# Altium schematic symbol library Lattice.SchLib: 1 symbol
Pins are listed as number, name and electrical type; pins without a type are passive.

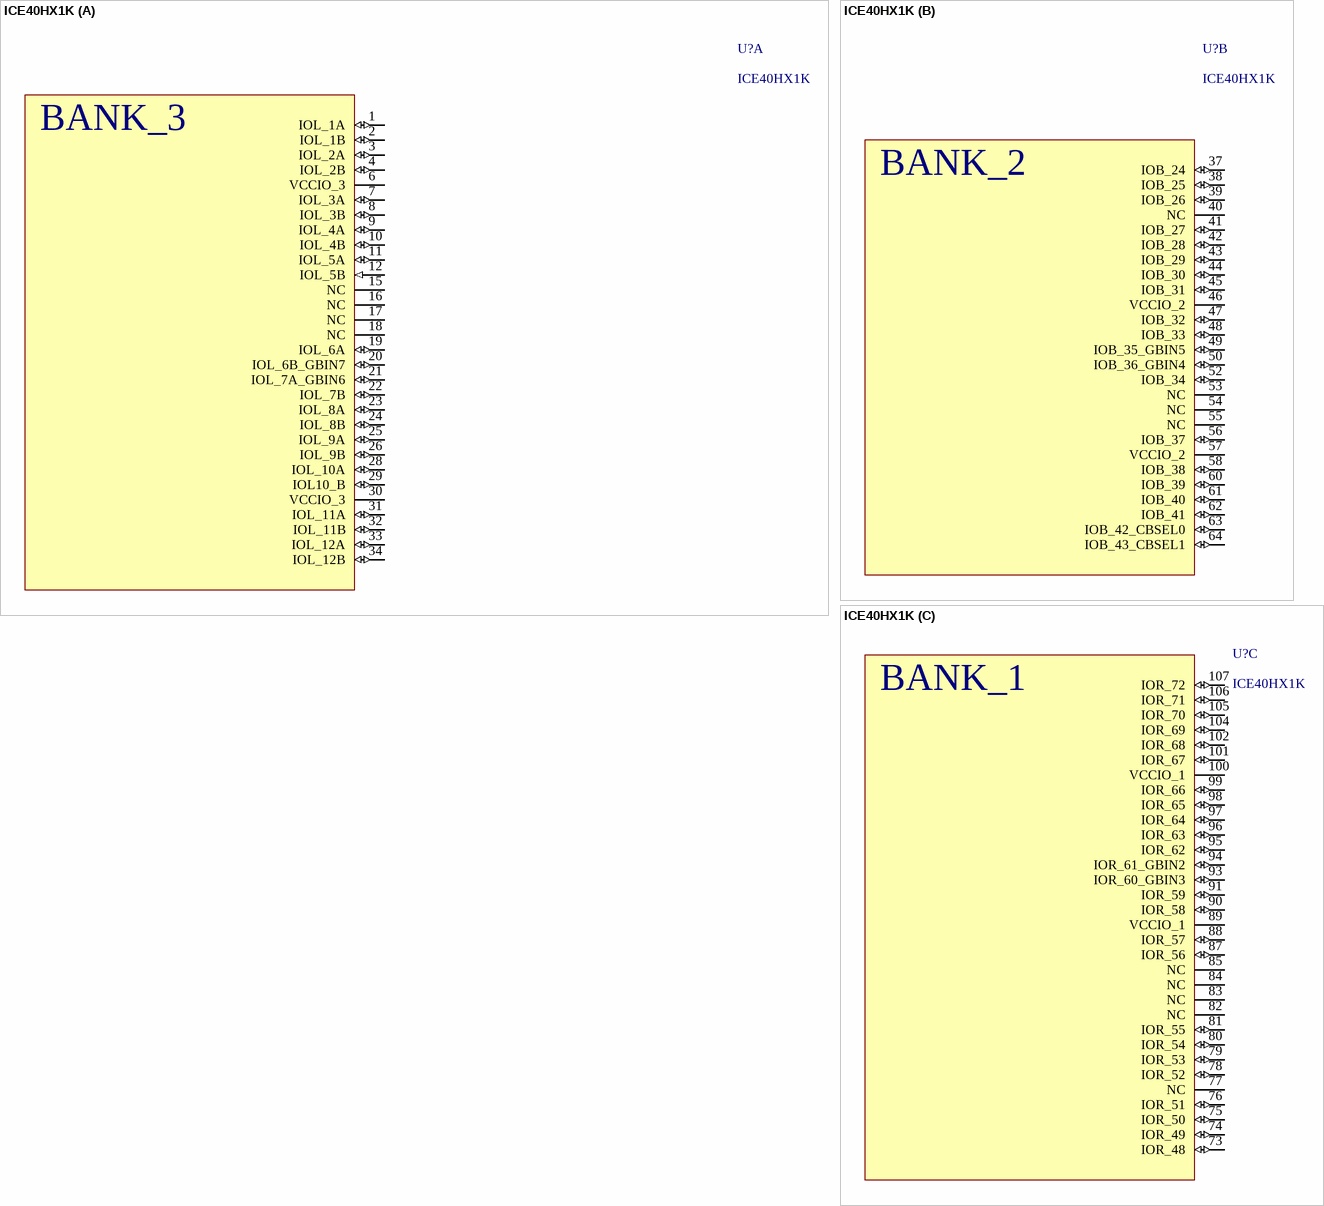
[diagram p0: symbol ICE40HX1K]

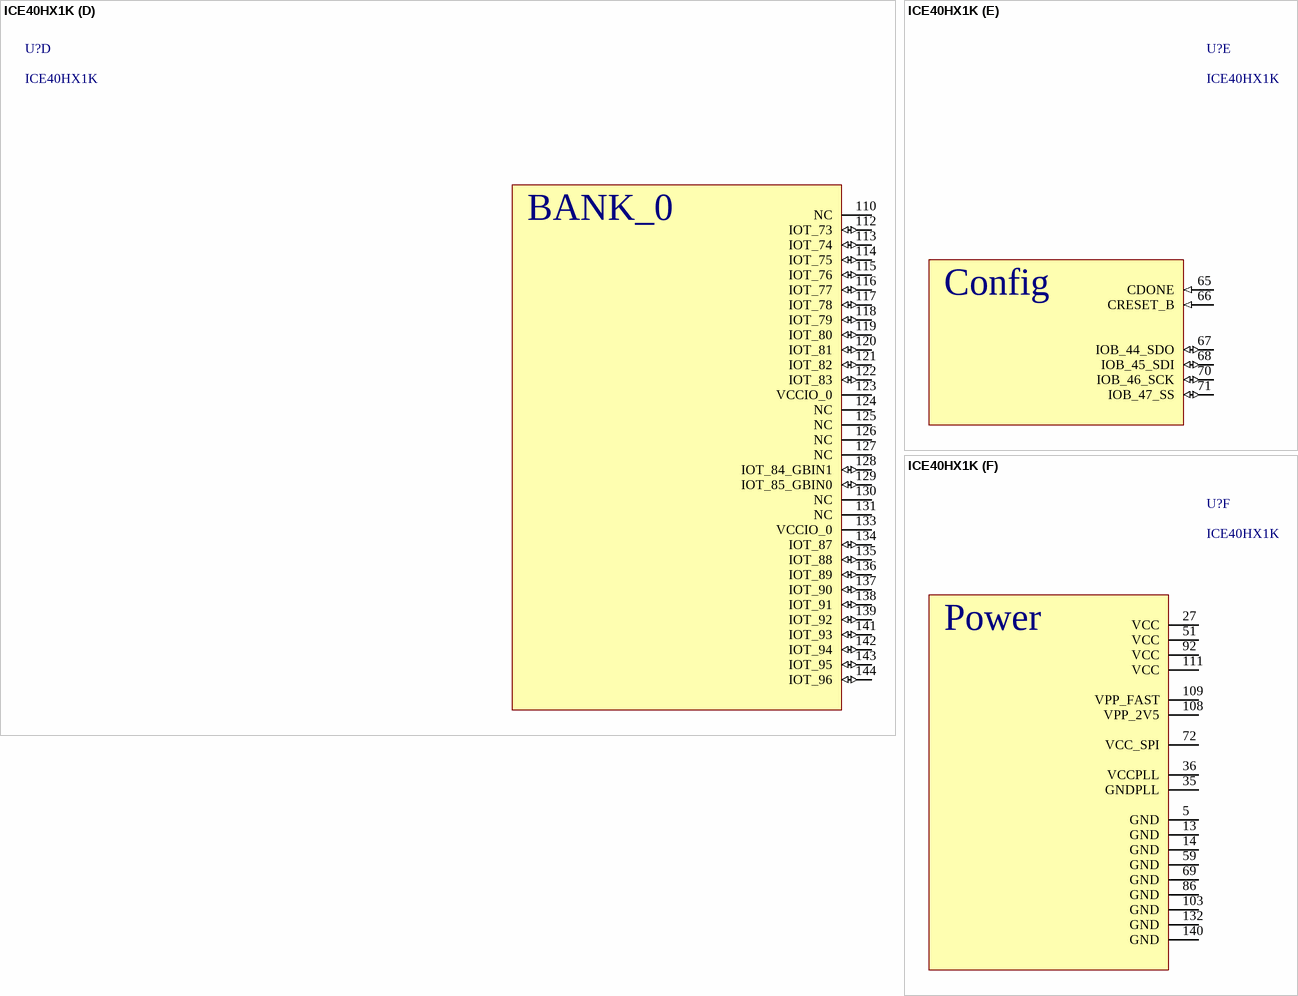
[diagram p1: symbol ICE40HX1K]

## ICE40HX1K
designator U?
ICE40 FPGA TQFP-144
footprint TQFP-144 (LQFP144 package 0.5Pitch)
part A pins: 1 IOL_1A (io), 2 IOL_1B (io), 3 IOL_2A (io), 4 IOL_2B (io), 6 VCCIO_3 (power), 7 IOL_3A (io), 8 IOL_3B (io), 9 IOL_4A (io), 10 IOL_4B (io), 11 IOL_5A (io), 12 IOL_5B (in), 15 NC, 16 NC, 17 NC, 18 NC, 19 IOL_6A (io), 20 IOL_6B_GBIN7 (io), 21 IOL_7A_GBIN6 (io), 22 IOL_7B (io), 23 IOL_8A (io), 24 IOL_8B (io), 25 IOL_9A (io), 26 IOL_9B (io), 28 IOL_10A (io), 29 IOL10_B (io), 30 VCCIO_3 (power), 31 IOL_11A (io), 32 IOL_11B (io), 33 IOL_12A (io), 34 IOL_12B (io)
part B pins: 37 IOB_24 (io), 38 IOB_25 (io), 39 IOB_26 (io), 40 NC, 41 IOB_27 (io), 42 IOB_28 (io), 43 IOB_29 (io), 44 IOB_30 (io), 45 IOB_31 (io), 46 VCCIO_2 (power), 47 IOB_32 (io), 48 IOB_33 (io), 49 IOB_35_GBIN5 (io), 50 IOB_36_GBIN4 (io), 52 IOB_34 (io), 53 NC, 54 NC, 55 NC, 56 IOB_37 (io), 57 VCCIO_2 (power), 58 IOB_38 (io), 60 IOB_39 (io), 61 IOB_40 (io), 62 IOB_41 (io), 63 IOB_42_CBSEL0 (io), 64 IOB_43_CBSEL1 (io)
part C pins: 73 IOR_48 (io), 74 IOR_49 (io), 75 IOR_50 (io), 76 IOR_51 (io), 77 NC, 78 IOR_52 (io), 79 IOR_53 (io), 80 IOR_54 (io), 81 IOR_55 (io), 82 NC, 83 NC, 84 NC, 85 NC, 87 IOR_56 (io), 88 IOR_57 (io), 89 VCCIO_1 (power), 90 IOR_58 (io), 91 IOR_59 (io), 93 IOR_60_GBIN3 (io), 94 IOR_61_GBIN2 (io), 95 IOR_62 (io), 96 IOR_63 (io), 97 IOR_64 (io), 98 IOR_65 (io), 99 IOR_66 (io), 100 VCCIO_1 (power), 101 IOR_67 (io), 102 IOR_68 (io), 104 IOR_69 (io), 105 IOR_70 (io), 106 IOR_71 (io), 107 IOR_72 (io)
part D pins: 110 NC, 112 IOT_73 (io), 113 IOT_74 (io), 114 IOT_75 (io), 115 IOT_76 (io), 116 IOT_77 (io), 117 IOT_78 (io), 118 IOT_79 (io), 119 IOT_80 (io), 120 IOT_81 (io), 121 IOT_82 (io), 122 IOT_83 (io), 123 VCCIO_0 (power), 124 NC, 125 NC, 126 NC, 127 NC, 128 IOT_84_GBIN1 (io), 129 IOT_85_GBIN0 (io), 130 NC, 131 NC, 133 VCCIO_0 (power), 134 IOT_87 (io), 135 IOT_88 (io), 136 IOT_89 (io), 137 IOT_90 (io), 138 IOT_91 (io), 139 IOT_92 (io), 141 IOT_93 (io), 142 IOT_94 (io), 143 IOT_95 (io), 144 IOT_96 (io)
part E pins: 65 CDONE (in), 66 CRESET_B (in), 67 IOB_44_SDO (io), 68 IOB_45_SDI (io), 70 IOB_46_SCK (io), 71 IOB_47_SS (io)
part F pins: 5 GND (power), 13 GND (power), 14 GND (power), 27 VCC (power), 35 GNDPLL (power), 36 VCCPLL (power), 51 VCC (power), 59 GND (power), 69 GND (power), 72 VCC_SPI (power), 86 GND (power), 92 VCC (power), 103 GND (power), 108 VPP_2V5 (power), 109 VPP_FAST (power), 111 VCC (power), 132 GND (power), 140 GND (power)
part A text: BANK_3
part B text: BANK_2
part C text: BANK_1
part D text: BANK_0
part E text: Config
part F text: Power